# Altium footprint library BGA.PcbLib: 3 footprints
Each footprint in its own frame and in the unit in brackets; x right, y up, seen from the top. Pads: shape width x height; smd on the part's side, far side on the other; paste and mask are expansions set on the pad; w line width, h text height; cw(c..) or ccw(c..) is an arc to the next point about the centre after c.
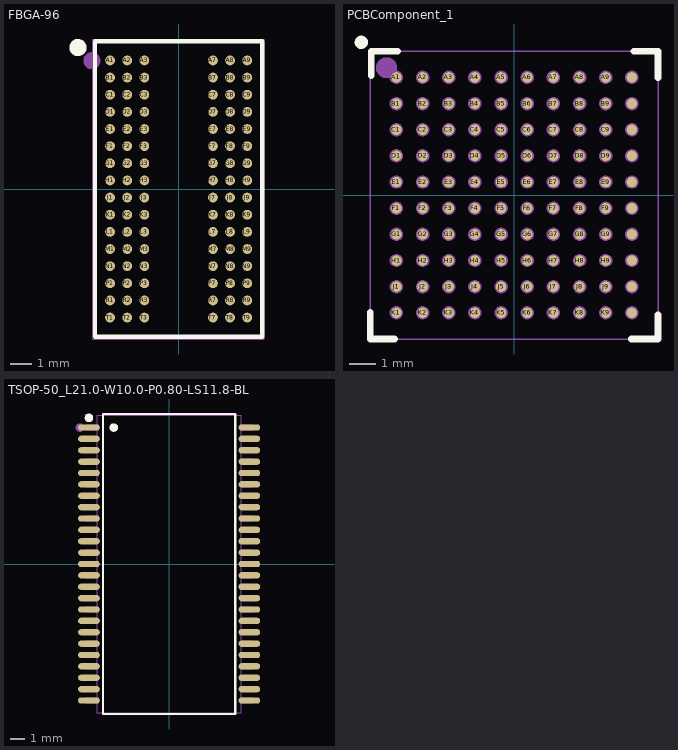
[diagram p0: the footprints below, top view; thin cyan lines are the x and y axes]

## FBGA-96 [mil] "FBGA-96_L8.0-W14.0_TL                          JLCPCB"
pads (96):
  round 18 smd: A1(-126,236.26) A2(-94.49,236.26) A3(-63,236.26) A7(62.99,236.26) A8(94.47,236.26) A9(126,236.26) B1(-126,204.74) B2(-94.49,204.74) B3(-63,204.74) B7(63,204.74) B8(94.47,204.74) B9(126,204.74) C1(-126,173.26) C2(-94.49,173.26) C3(-63,173.26) C7(63,173.26) C8(94.47,173.26) C9(126,173.26) D1(-126,141.74) D2(-94.49,141.74) D3(-63,141.74) D7(63,141.74) D8(94.47,141.74) D9(126,141.74) E1(-126,110.26) E2(-94.49,110.26) E3(-63,110.26) E7(63,110.26) E8(94.47,110.26) E9(126,110.26) F1(-126,78.74) F2(-94.49,78.74) F3(-63,78.74) F7(63,78.74) F8(94.47,78.74) F9(126,78.74) G1(-126,47.26) G2(-94.49,47.26) G3(-63,47.26) G7(63,47.26) G8(94.47,47.26) G9(126,47.26) H1(-126,15.78) H2(-94.49,15.78) H3(-63,15.78) H7(63,15.78) H8(94.47,15.78) H9(126,15.77) J1(-126,-15.74) J2(-94.49,-15.74) J3(-63,-15.74) J7(63,-15.74) J8(94.47,-15.74) J9(126,-15.74) K1(-126,-47.26) K2(-94.49,-47.26) K3(-63,-47.26) K7(63,-47.26) K8(94.47,-47.26) K9(126,-47.26) L1(-126,-78.74) L2(-94.49,-78.74) L3(-63,-78.74) L7(63,-78.74) L8(94.47,-78.74) L9(126,-78.74) M1(-126,-110.26) M2(-94.49,-110.26) M3(-63,-110.26) M7(63,-110.26) M8(94.47,-110.26) M9(126,-110.26) N1(-126,-141.74) N2(-94.49,-141.74) N3(-63,-141.74) N7(63,-141.74) N8(94.47,-141.74) N9(126,-141.74) P1(-126,-173.26) P2(-94.49,-173.26) P3(-63,-173.26) P7(63,-173.26) P8(94.47,-173.26) P9(126,-173.26) R1(-126,-204.74) R2(-94.49,-204.74) R3(-63,-204.74) R7(63,-204.74) R8(94.47,-204.74) R9(126,-204.74) T1(-126,-236.26) T2(-94.49,-236.26) T3(-63,-236.26) T7(63,-236.26) T8(94.47,-236.26) T9(126,-236.26)
Top Overlay:
  lines w7.9: -153.5,-271.68 153.5,-271.68 153.5,271.72 -153.5,271.72 -153.5,-271.68
  lines w15.7: -192.9,259.82 ccw(c-185,259.87) -177.1,259.87 ccw(c-185,259.87) -192.9,259.92
Mechanical 6:
  circle w15.75: c-159.45,235.85 r7.87
Mechanical 15:
  lines w2: -157.48,-275.57 157.48,-275.57 157.48,275.61 -157.48,275.61 -157.48,-275.57

## PCBComponent_1 [mm]
pads (100):
  round 0.4 smd: A1(-4.5,4.5) A2(-3.5,4.5) A3(-2.5,4.5) A4(-1.5,4.5) A5(-0.5,4.5) A6(0.5,4.5) A7(1.5,4.5) A8(2.5,4.5) A9(3.5,4.5) A10(4.5,4.5) B1(-4.5,3.5) B2(-3.5,3.5) B3(-2.5,3.5) B4(-1.5,3.5) B5(-0.5,3.5) B6(0.5,3.5) B7(1.5,3.5) B8(2.5,3.5) B9(3.5,3.5) B10(4.5,3.5) C1(-4.5,2.5) C2(-3.5,2.5) C3(-2.5,2.5) C4(-1.5,2.5) C5(-0.5,2.5) C6(0.5,2.5) C7(1.5,2.5) C8(2.5,2.5) C9(3.5,2.5) C10(4.5,2.5) D1(-4.5,1.5) D2(-3.5,1.5) D3(-2.5,1.5) D4(-1.5,1.5) D5(-0.5,1.5) D6(0.5,1.5) D7(1.5,1.5) D8(2.5,1.5) D9(3.5,1.5) D10(4.5,1.5) E1(-4.5,0.5) E2(-3.5,0.5) E3(-2.5,0.5) E4(-1.5,0.5) E5(-0.5,0.5) E6(0.5,0.5) E7(1.5,0.5) E8(2.5,0.5) E9(3.5,0.5) E10(4.5,0.5) F1(-4.5,-0.5) F2(-3.5,-0.5) F3(-2.5,-0.5) F4(-1.5,-0.5) F5(-0.5,-0.5) F6(0.5,-0.5) F7(1.5,-0.5) F8(2.5,-0.5) F9(3.5,-0.5) F10(4.5,-0.5) G1(-4.5,-1.5) G2(-3.5,-1.5) G3(-2.5,-1.5) G4(-1.5,-1.5) G5(-0.5,-1.5) G6(0.5,-1.5) G7(1.5,-1.5) G8(2.5,-1.5) G9(3.5,-1.5) G10(4.5,-1.5) H1(-4.5,-2.5) H2(-3.5,-2.5) H3(-2.5,-2.5) H4(-1.5,-2.5) H5(-0.5,-2.5) H6(0.5,-2.5) H7(1.5,-2.5) H8(2.5,-2.5) H9(3.5,-2.5) H10(4.5,-2.5) J1(-4.5,-3.5) J2(-3.5,-3.5) J3(-2.5,-3.5) J4(-1.5,-3.5) J5(-0.5,-3.5) J6(0.5,-3.5) J7(1.5,-3.5) J8(2.5,-3.5) J9(3.5,-3.5) J10(4.5,-3.5) K1(-4.5,-4.5) K2(-3.5,-4.5) K3(-2.5,-4.5) K4(-1.5,-4.5) K5(-0.5,-4.5) K6(0.5,-4.5) K7(1.5,-4.5) K8(2.5,-4.5) K9(3.5,-4.5) K10(4.5,-4.5)
Top Overlay:
  circle w0.254: c-5.842,5.842 r0.127
  lines w0.254: -5.5,-4.484 -5.5,-5.5 -4.572,-5.5 ; -5.461,4.572 -5.461,5.5 -4.445,5.5 ; 4.484,-5.5 5.5,-5.5 5.5,-4.572 ; 4.572,5.5 5.5,5.5 5.5,4.484
Mechanical 6:
  circle w0.4: c-4.88,4.87 r0.2
Mechanical 15:
  drawing of 105 lines, arcs and shapes, not listed

## TSOP-50_L21.0-W10.0-P0.80-LS11.8-BL [mil]
pads (50):
  oval 60x17.64 smd: 1(-222.13,377.95) 2(-222.13,346.46) 3(-222.13,314.96) 4(-222.13,283.46) 5(-222.13,251.97) 6(-222.13,220.47) 7(-222.13,188.98) 8(-222.13,157.48) 9(-222.13,125.98) 10(-222.13,94.49) 11(-222.13,62.99) 12(-222.13,31.5) 13(-222.13,0) 14(-222.13,-31.5) 15(-222.13,-62.99) 16(-222.13,-94.49) 17(-222.13,-125.98) 18(-222.13,-157.48) 19(-222.13,-188.98) 20(-222.13,-220.47) 21(-222.13,-251.97) 22(-222.13,-283.47) 23(-222.13,-314.96) 24(-222.13,-346.46) 25(-222.13,-377.95) 26(222.13,-377.95) 27(222.13,-346.46) 28(222.13,-314.96) 29(222.13,-283.47) 30(222.13,-251.97) 31(222.13,-220.47) 32(222.13,-188.98) 33(222.13,-157.48) 34(222.13,-125.98) 35(222.13,-94.49) 36(222.13,-62.99) 37(222.13,-31.5) 38(222.13,0) 39(222.13,31.5) 40(222.13,62.99) 41(222.13,94.49) 42(222.13,125.98) 43(222.13,157.48) 44(222.13,188.98) 45(222.13,220.47) 46(222.13,251.97) 47(222.13,283.46) 48(222.13,314.96) 49(222.13,346.46) 50(222.13,377.95)
Top Overlay:
  circle w11.81: c-222.13,404.58 r5.91
  circle w11.81: c-153.5,377.95 r5.91
  lines w6: -183.13,-415.4 183.13,-415.4 183.13,415.4 -183.13,415.4 -183.13,-415.4
Mechanical 6:
  circle w11.81: c-247.24,377.95 r5.91
Mechanical 15:
  drawing of 105 lines, arcs and shapes, not listed